# Altium footprint library Res_PcbLib.PcbLib: 22 footprints (part 1 of 2)
Each footprint in its own frame and in the unit in brackets; x right, y up, seen from the top. Pads: shape width x height; smd on the part's side, far side on the other; paste and mask are expansions set on the pad; w line width, h text height; cw(c..) or ccw(c..) is an arc to the next point about the centre after c.
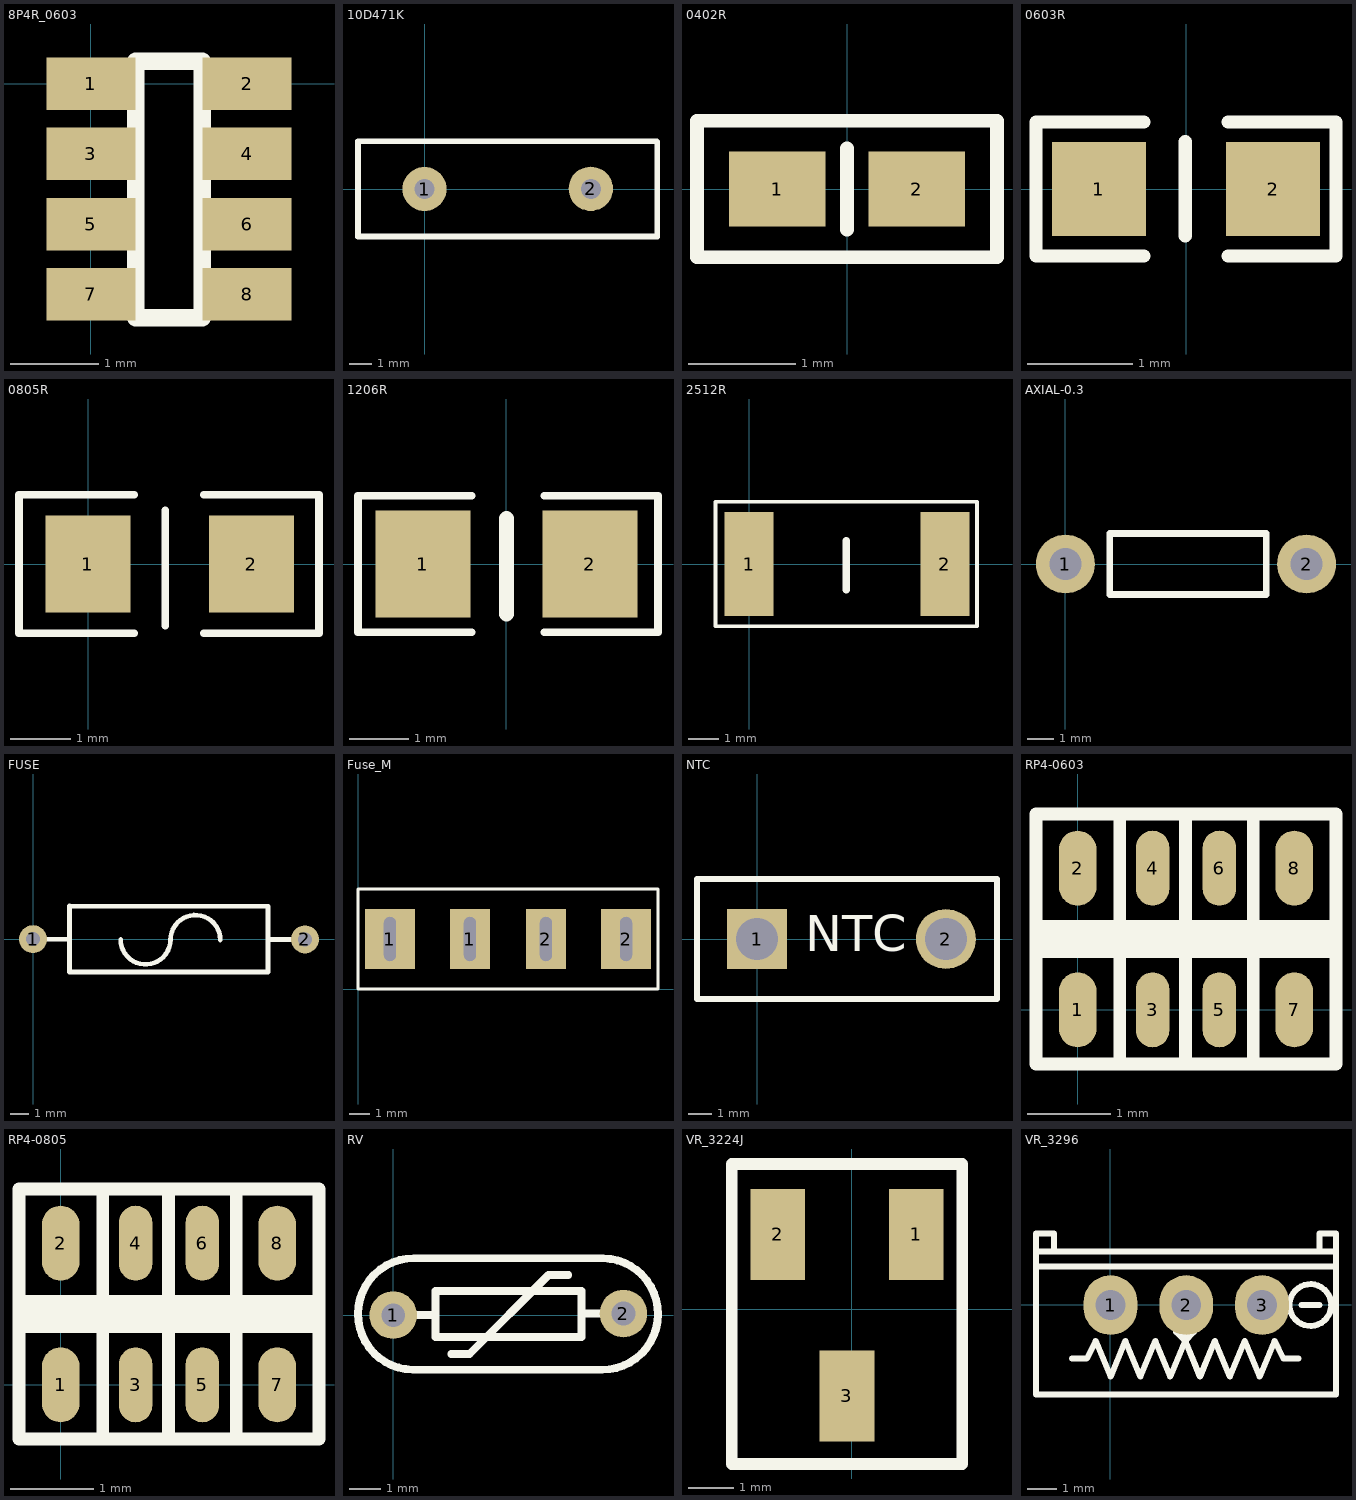
[diagram p0: the footprints below, top view; thin cyan lines are the x and y axes]

## 8P4R_0603 [mm]
pads (8):
  rect 1.016x0.6 smd: 1(0,0) 2(1.778,0) 3(0,-0.8) 4(1.778,-0.8) 5(0,-1.6) 6(1.778,-1.6) 7(0,-2.4) 8(1.778,-2.4)
Top Overlay:
  lines w0.2: 0.508,-2.667 0.508,0.254 1.27,0.254 1.27,-2.667 0.508,-2.667

## 10D471K [mm]
pads (2):
  round 2 hole 0.9: 1(0,0) 2(7.5,0.01)
Top Overlay:
  lines w0.254: -3,-2.15 -3,2.16 10.373,2.16 10.422,2.16 cw(c10.422,2.049) 10.5,2.128 10.5,-2.16 ; -3,-2.14 10.5,-2.14

## 0402R [mm] "Chip Capacitor; Body 1.0 x 0.5 mm (LxW typ)"
height 0.55
pads (2):
  rect 0.9x0.7 smd: 1(-0.65,0) 2(0.65,0)
Top Overlay:
  lines w0.127: 0,-0.381 0,0.381 ; -1.397,-0.635 -1.397,0.135 -1.397,0.635 1.397,0.635 1.397,-0.635 -1.397,-0.635

## 0603R [mil]
pads (2):
  rect 35x35 smd: 1(-32.5,0) 2(32.5,0)
Top Overlay:
  lines w5: -15.75,-25 -56,-25 -56,25 -15.76,25 ; -0.26,-17.43 -0.26,17.67 ; 15.74,-25 56,-25 56,25 15.74,25

## 0805R [mm]
pads (2):
  rect 1.4x1.6 smd: 1(-0.006,-0.001) 2(2.694,-0.001)
Top Overlay:
  lines w0.127: 0.762,-1.143 -1.143,-1.143 -1.143,1.143 0.762,1.143 ; 1.27,-1.016 1.27,0.889 ; 1.905,-1.143 3.81,-1.143 3.81,1.143 1.905,1.143

## 1206R [mm] "Chip Capacitor; Body 3.2 x 1.6 mm (LxW typ)"
height 1.3
pads (2):
  rect 1.6x1.8 smd: 1(-1.4,0) 2(1.4,0)
Top Overlay:
  lines w0.127: -0.584,-1.143 -2.489,-1.143 -2.489,1.143 -0.584,1.143 ; 0.635,-1.143 2.54,-1.143 2.54,1.143 0.635,1.143
  lines w0.254: 0,-0.838 0,0.762

## 2512R [mm]
height 1.2
pads (2):
  rect 1.6x3.4 smd: 1(0,0) 2(6.4,0)
Top Overlay:
  lines w0.127: -1.092,2.032 -1.092,-2.032 7.442,-2.032 7.442,2.032 -1.041,2.032
  lines w0.254: 3.175,-0.838 3.175,0.762

## AXIAL-0.3 [mm]
pads (2):
  round 2.2 hole 1.2: 1(0,0) 2(9,0)
Top Overlay:
  lines w0.254: 1.651,-1.143 7.493,-1.143 7.493,1.143 1.651,1.143 1.651,-1.143

## FUSE [mil]
pads (2):
  round 60 hole 30: 1(0,0) 2(582.68,-0.39)
Top Overlay:
  lines w10: -0.39,-0.39 78.35,-0.39 ; 78.35,71.26 78.35,-70.47 ; 187.7,-0.75 ccw(c241.09,-0.75) 294.49,-1.18 cw(c347.88,-1.61) 401.28,-1.61 ; 503.54,-0.79 582.28,-0.79 ; 78.35,-70.47 503.54,-70.47 503.54,69.92 cw(c504.89,69.92) 503.94,70.87 78.35,70.87 78.35,-70.47

## Fuse_M [mm]
pads (4):
  rect 2.5x3 hole 0.6 slot 2.2 at 90 deg: 1(1.6,2.5) 2(13.4,2.5)
  rect 2x3 hole 0.6 slot 2.2 at 90 deg: 1(5.6,2.5) 2(9.4,2.5)
Top Overlay:
  lines w0.152: 0,0 15,0 15,5 0,5 0,0

## NTC [mil] "热敏电阻"
pads (2):
  rect 100x100 hole 70: 1(0,0)
  round 100 hole 70: 2(314.96,0)
Top Overlay:
  lines w10: -100,-100 400,-100 400,100 -100,100 -100,-100
  text "NTC" at 80,-20 h60

## RP4-0603 [mm]
pads (8):
  oval 0.45x0.9 smd: 1(0,0) 2(0,1.7) 7(2.6,0) 8(2.6,1.7)
  oval 0.4x0.9 smd: 3(0.9,0) 4(0.9,1.7) 5(1.7,0) 6(1.7,1.7)
Top Overlay:
  lines w0.025: -0.45,-0.45 -0.45,2.15 ; -0.45,-0.45 -0.45,2.15 ; -0.45,-0.45 -0.45,2.15 ; 3.05,-0.45 3.05,2.15 ; 3.05,-0.45 3.05,2.15 ; 3.05,-0.45 3.05,2.15
  lines w0.152: -0.498,1 -0.332,1 2.945,1 3.098,1 3.049,0.901 -0.5,0.901 -0.5,0.799 3.049,0.799 3.047,0.7 2.945,0.7 -0.332,0.7 -0.472,0.7 ; 0.506,-0.65 0.506,2.35 ; 1.294,-0.65 1.294,2.35 ; 2.107,-0.65 2.107,2.35 ; 2.621,-0.65 3.1,-0.65 3.1,2.35 -0.5,2.35 -0.5,-0.65 -0.4,-0.65 3,-0.65

## RP4-0805 [mm]
pads (8):
  oval 0.45x0.9 smd: 1(0,0) 2(0,1.7) 7(2.6,0) 8(2.6,1.7)
  oval 0.4x0.9 smd: 3(0.9,0) 4(0.9,1.7) 5(1.7,0) 6(1.7,1.7)
Top Overlay:
  lines w0.025: -0.45,-0.45 -0.45,2.15 ; -0.45,-0.45 -0.45,2.15 ; -0.45,-0.45 -0.45,2.15 ; 3.05,-0.45 3.05,2.15 ; 3.05,-0.45 3.05,2.15 ; 3.05,-0.45 3.05,2.15
  lines w0.152: -0.498,1 -0.332,1 2.945,1 3.098,1 3.049,0.901 -0.5,0.901 -0.5,0.799 3.049,0.799 3.047,0.7 2.945,0.7 -0.332,0.7 -0.472,0.7 ; 0.506,-0.65 0.506,2.35 ; 1.294,-0.65 1.294,2.35 ; 2.107,-0.65 2.107,2.35 ; 2.621,-0.65 3.1,-0.65 3.1,2.35 -0.5,2.35 -0.5,-0.65 -0.4,-0.65 3,-0.65

## RV [mil]
pads (2):
  round 60 hole 30: 1(0,0) 2(290.55,1.97)
Top Overlay:
  lines w10: 0,0 53.54,0 ; 73.23,-49.21 96.06,-49.21 196.06,50.79 220.87,50.79 ; 236.61,-27.4 236.22,-27.4 53.54,-27.4 53.54,30.71 237.79,30.71 237.79,-27.4 ; 237.79,1.97 290.55,1.97 ; 220.87,50.79 ccw(c220.87,50.79) 220.87,50.79 ; 24.8,-68.9 cw(c25.91,1.46) 25.91,71.82 264.88,71.82 cw(c263.78,1.46) 263.78,-68.9 24.8,-68.9

## VR_3224J [mm]
pads (3):
  rect 1.2x2 smd: 1(1.422,1.651) 2(-1.626,1.651) 3(-0.102,-1.905)
Top Overlay:
  lines w0.254: -2.642,-3.404 2.438,-3.404 2.438,3.2 -2.642,3.2 -2.642,-3.404

## VR_3296 [mm]
pads (3):
  oval 1.8x2 hole 1: 1(0.01,-0.013) 2(2.55,-0.013) 3(5.09,-0.013)
Top Overlay:
  circle w0.2: c6.71,-0.013 r0.7
  lines w0.2: -2.49,1.287 7.51,1.287 ; -1.89,1.787 -1.89,2.387 -2.49,2.387 -2.49,1.787 ; -1.29,-1.813 -0.79,-1.813 -0.49,-1.213 0.01,-2.413 0.51,-1.213 1.01,-2.413 1.51,-1.213 2.01,-2.413 2.51,-1.213 ; 2.21,-0.913 2.51,-1.213 ; 2.51,-0.013 2.51,-1.213 ; 2.81,-0.913 2.51,-1.213 ; 6.31,-1.813 5.81,-1.813 5.51,-1.213 5.01,-2.413 4.51,-1.213 4.01,-2.413 3.51,-1.213 3.01,-2.413 2.51,-1.213 ; 6.41,-0.013 7.01,-0.013 ; 7.01,1.787 7.01,2.387 7.51,2.387 ; 7.51,-3.013 -2.49,-3.013 -2.49,1.787 ; 7.51,1.787 -2.49,1.787 ; 7.57,-3.013 7.57,1.787 7.57,2.387